# EAGLE library part CM1624-08DE (library CM1624-08DE)
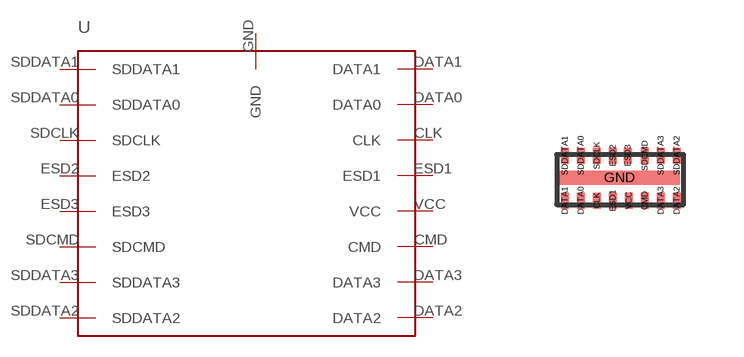
[diagram p0: symbol with the pads of CM1624-08DE; footprint CM1624-08DE]

Designator prefix -

## CM1624-08DE  [CM1624-08DE]
CLK  CLK
CMD  CMD
DATA0  DATA0
DATA1  DATA1
DATA2  DATA2
DATA3  DATA3
ESD1  ESD1
ESD2  ESD2
ESD3  ESD3
GND  GND
SDCLK  SDCLK
SDCMD  SDCMD
SDDATA0  SDDATA0
SDDATA1  SDDATA1
SDDATA2  SDDATA2
SDDATA3  SDDATA3
VCC  VCC

## Footprint CM1624-08DE (pad centres in mm)
smd 0.2 x 0.4: CLK 1,0; CMD 2.2,0; DATA0 0.6,0; DATA1 0.2,0; DATA2 3,0; DATA3 2.6,0; ESD1 1.4,0; ESD2 1.4,1.125; ESD3 1.775,1.125; SDCLK 1,1.125; SDCMD 2.2,1.125; SDDATA0 0.6,1.125; SDDATA1 0.2,1.125; SDDATA2 3,1.125; SDDATA3 2.6,1.125; VCC 1.8,0
smd 3 x 0.35: GND 1.575,0.575